# Altium schematic symbol library Storage.SchLib: 1 symbol
Pins are listed as number, name and electrical type; pins without a type are passive.

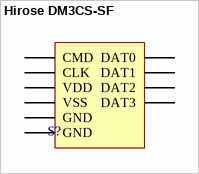
[diagram p0: symbol Hirose DM3CS-SF]

## Hirose DM3CS-SF
designator S?, comment DM3CS-SF  (value not drawn)
8+2 Pin MicroSD Connector
pins: 1 DAT2, 2 DAT3, 3 CMD, 4 VDD, 5 CLK, 6 VSS, 7 DAT0, 8 DAT1, 9 GND, 10 GND